# Altium schematic symbol library MPSA56 Transistor.SchLib: 1 symbol
Pins are listed as number, name and electrical type; pins without a type are passive.

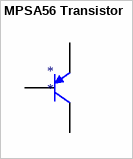
[diagram p0: symbol MPSA56 Transistor]

## MPSA56 Transistor
designator *
pins: 1 E, 2 B, 3 C